# EAGLE library part PIC18LF67K40 (library yapo)
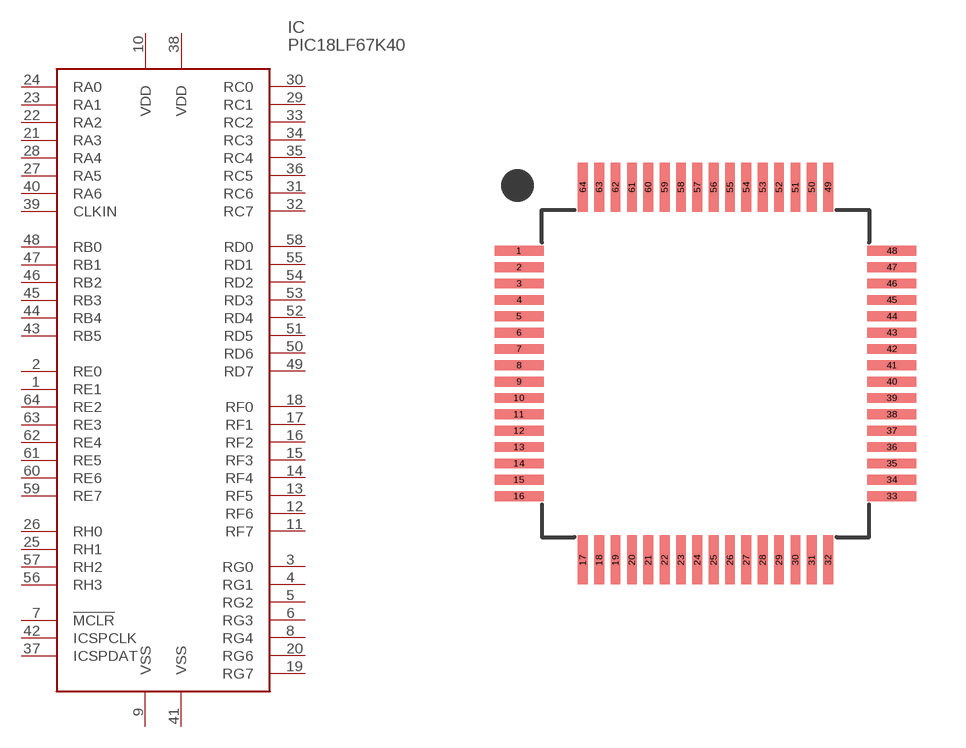
[diagram p69: symbol with the pads of TQFP-100-10X10; footprint TQFP-100-10X10]

Designator prefix IC

## PIC18LF67K40  [TQFP-100-10X10]
1  RE1
2  RE0
3  RG0
4  RG1
5  RG2
6  RG3
7  !MCLR!
8  RG4
9  VSS
10  VDD
11  RF7
12  RF6
13  RF5
14  RF4
15  RF3
16  RF2
17  RF1
18  RF0
19  RG7
20  RG6
21  RA3
22  RA2
23  RA1
24  RA0
25  RH1
26  RH0
27  RA5
28  RA4
29  RC1
30  RC0
31  RC6
32  RC7
33  RC2
34  RC3
35  RC4
36  RC5
37  ICSPDAT
38  VDD
39  CLKIN
40  RA6
41  VSS
42  ICSPCLK
43  RB5
44  RB4
45  RB3
46  RB2
47  RB1
48  RB0
49  RD7
50  RD6
51  RD5
52  RD4
53  RD3
54  RD2
55  RD1
56  RH3
57  RH2
58  RD0
59  RE7
60  RE6
61  RE5
62  RE4
63  RE3
64  RE2

## Footprint TQFP-100-10X10 (pad centres in mm)
smd 1.5 x 0.3: 1 -5.7,3.75; 2 -5.7,3.25; 3 -5.7,2.75; 4 -5.7,2.25; 5 -5.7,1.75; 6 -5.7,1.25; 7 -5.7,0.75; 8 -5.7,0.25; 9 -5.7,-0.25; 10 -5.7,-0.75; 11 -5.7,-1.25; 12 -5.7,-1.75; 13 -5.7,-2.25; 14 -5.7,-2.75; 15 -5.7,-3.25; 16 -5.7,-3.75; 33 5.7,-3.75; 34 5.7,-3.25; 35 5.7,-2.75; 36 5.7,-2.25; 37 5.7,-1.75; 38 5.7,-1.25; 39 5.7,-0.75; 40 5.7,-0.25; 41 5.7,0.25; 42 5.7,0.75; 43 5.7,1.25; 44 5.7,1.75; 45 5.7,2.25; 46 5.7,2.75; 47 5.7,3.25; 48 5.7,3.75
smd 0.3 x 1.5: 17 -3.75,-5.7; 18 -3.25,-5.7; 19 -2.75,-5.7; 20 -2.25,-5.7; 21 -1.75,-5.7; 22 -1.25,-5.7; 23 -0.75,-5.7; 24 -0.25,-5.7; 25 0.25,-5.7; 26 0.75,-5.7; 27 1.25,-5.7; 28 1.75,-5.7; 29 2.25,-5.7; 30 2.75,-5.7; 31 3.25,-5.7; 32 3.75,-5.7; 49 3.75,5.7; 50 3.25,5.7; 51 2.75,5.7; 52 2.25,5.7; 53 1.75,5.7; 54 1.25,5.7; 55 0.75,5.7; 56 0.25,5.7; 57 -0.25,5.7; 58 -0.75,5.7; 59 -1.25,5.7; 60 -1.75,5.7; 61 -2.25,5.7; 62 -2.75,5.7; 63 -3.25,5.7; 64 -3.75,5.7